# Altium footprint library Qorvo.PcbLib: 7 footprints
Each footprint in its own frame and in the unit in brackets; x right, y up, seen from the top. Pads: shape width x height; smd on the part's side, far side on the other; paste and mask are expansions set on the pad; w line width, h text height; cw(c..) or ccw(c..) is an arc to the next point about the centre after c.
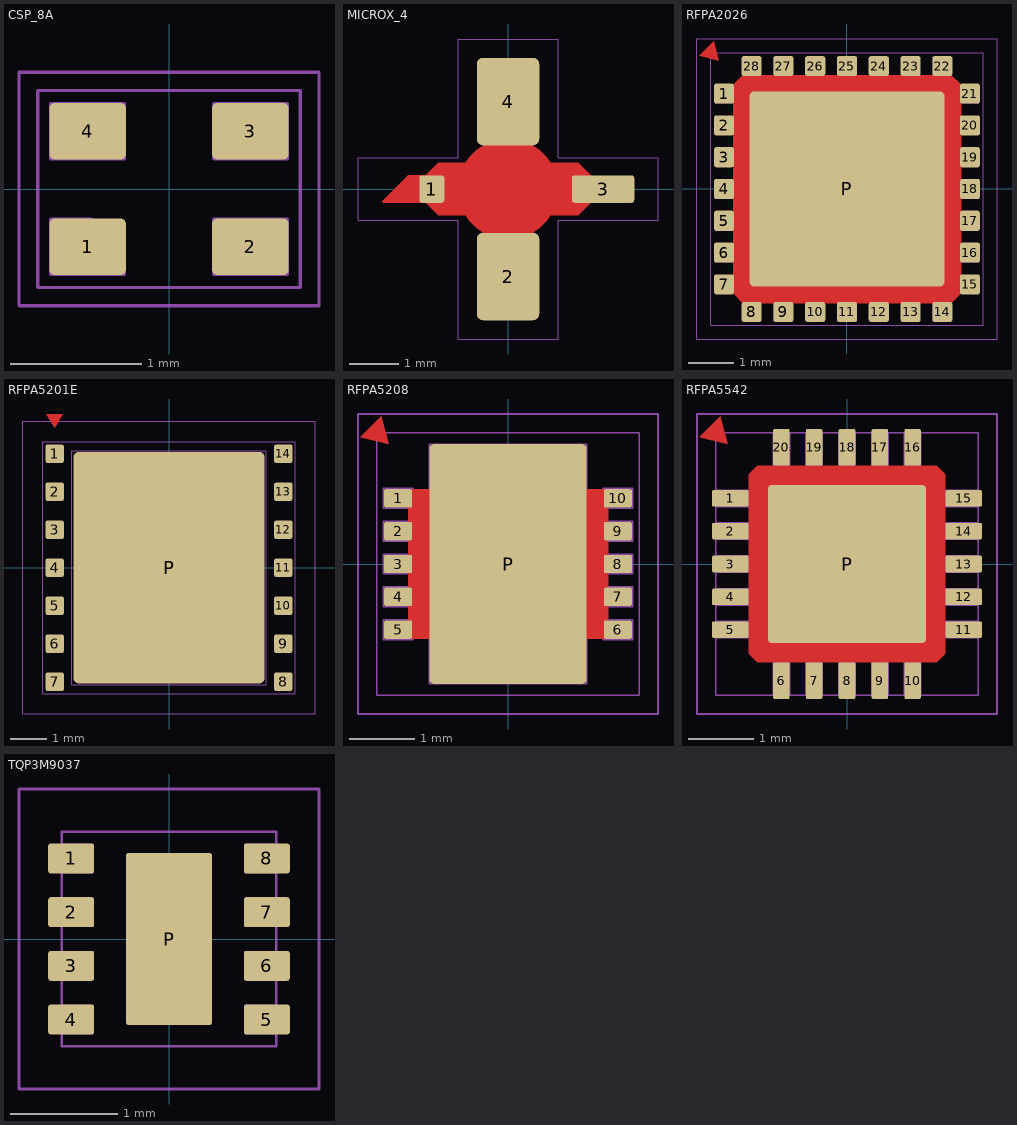
[diagram p0: the footprints below, top view; thin cyan lines are the x and y axes]

## CSP_8A [mil]
pads (4):
  rrect20% 23x17 smd mask+2: 1(-24.41,-17.32) 2(24.41,-17.32) 3(24.41,17.32) 4(-24.41,17.32)
Top Component Outline:
  lines w1: -45,-35 -45,35 45,35 45,-35 -45,-35
Top 3D Body (Mech16):
  lines w1: -39.37,-29.53 -39.37,29.53 39.37,29.53 39.37,-29.53 -39.37,-29.53 ; -35.43,-25.59 -35.43,-9.06 -23.23,-9.06 -13.39,-18.9 -13.39,-25.59 -35.43,-25.59 ; -35.43,9.06 -35.43,25.59 -13.39,25.59 -13.39,9.06 -35.43,9.06 ; 13.39,-25.59 13.39,-9.06 35.43,-9.06 35.43,-25.59 13.39,-25.59 ; 13.39,9.06 13.39,25.59 35.43,25.59 35.43,9.06 13.39,9.06
3D body: height 27.17, standoff 23.62, extent -39.37,-29.53 39.37,29.53
3D body: height 23.62, standoff 0, extent -39.37,-29.53 39.37,29.53
3D body: height 27.2, standoff 23, extent -34,-24 -24,-14

## MICROX_4 [mil]
pads (4):
  rrect20% 20x22 smd paste-2 mask+2: 1(-61,0)
  rrect20% 50x70 smd paste-100 mask+2: 2(0,-70) 4(0,70)
  rrect20% 50x22 smd paste-2 mask+2: 3(76,0)
Top Layer:
  pour cut-out: -56,21 -68,9 -68,-9 -56,-21 -30,-21 -30,21
  pour cut-out: 56,-21 68,-9 68,9 56,21 30,21 30,-21
  region: -65,11 -79,11 -79.24,11 -79.7,10.91 -80.14,10.73 -80.54,10.46 -80.71,10.29 -101,-10 -100,-11 -65,-11
  pour cut-out: 0,40 -3.94,40 -11.67,38.46 -18.95,35.45 -25.5,31.07 -31.07,25.5 -35.45,18.95 -38.46,11.67 -40,3.94 -40,0 -40,-3.94 -38.46,-11.67 -35.45,-18.95 -31.07,-25.5 -25.5,-31.07 -18.95,-35.45 -11.67,-38.46 -3.94,-40 0,-40 3.94,-40 11.67,-38.46 18.95,-35.45 25.5,-31.07 31.07,-25.5 35.45,-18.95 38.46,-11.67 40,-3.94 40,0 40,3.94 38.46,11.67 35.45,18.95 31.07,25.5 25.5,31.07 18.95,35.45 11.67,38.46 3.94,40
Top Paste:
  rectangle: -20,-100 20,-75
  rectangle: -20,-65 20,-40
  region: 20,65 -20,65 -20,40 20,40
  region: 20,100 -20,100 -20,75 20,75
Top Component Outline:
  lines w1: -120,-25 -120,25 -40,25 -40,120 40,120 40,25 120,25 120,-25 40,-25 40,-120 -40,-120 -40,-25 -120,-25
Top 3D Body (Mech16):
  circle w1: c0,0 r35
  lines w1: -100,-10 -80,10 -31,10 -31,-10 -100,-10 ; -20,-100 20,-100 20,-26 -20,-26 -20,-100 ; -20,26 20,26 20,100 -20,100 -20,26 ; 31,-10 100,-10 100,10 31,10 31,-10
3D body: height 56, standoff 1, extent -34.72,-34.93 35,34.93
3D body: height 5, standoff 0, extent 31,-10 100,10
3D body: height 5, standoff 0, extent -100,-10 -31,10
3D body: height 5, standoff 0, extent -20,-100 20,-26
3D body: height 5, standoff 0, extent -20,26 20,100

## RFPA2026 [mil] "RFPA2026"
pads (29):
  rrect20% 17x17.5 smd mask+2: 1(-106.58,82.68) 2(-106.58,55.12) 3(-106.58,27.56) 4(-106.58,0) 5(-106.58,-27.56) 6(-106.58,-55.12) 7(-106.58,-82.68) 15(106.58,-82.68) 16(106.58,-55.12) 17(106.58,-27.56) 18(106.58,0) 19(106.58,27.56) 20(106.58,55.12) 21(106.58,82.68)
  rrect20% 17.5x17 smd mask+2: 8(-82.68,-106.58) 9(-55.12,-106.58) 10(-27.56,-106.58) 11(0,-106.58) 12(27.56,-106.58) 13(55.12,-106.58) 14(82.68,-106.58) 22(82.68,106.58) 23(55.12,106.58) 24(27.56,106.58) 25(0,106.58) 26(-27.56,106.58) 27(-55.12,106.58) 28(-82.68,106.58)
  rrect5% 169.29x169.29 smd mask+2: P(0,0)
Top Layer:
  region: -111.06,111.11 -115.3,128.08 -128.03,115.35
  pour cut-out: -98.73,90.27 -90.27,98.73 90.55,98.73 99.02,90.27 99.02,-90.55 90.55,-99.01 -90.27,-99.01 -98.73,-90.55
Top Component Outline:
  lines w1: -130,-130 130,-130 130,130 -130,130 -130,-130
Top 3D Body (Mech16):
  lines w1: -118.11,-118.11 118.11,-118.11 118.11,118.11 -118.11,118.11 -118.11,-118.11 ; -114.15,-90.55 -99.02,-90.55 -99.02,-74.8 -114.15,-74.8 -114.15,-90.55 ; -114.15,-62.99 -114.15,-47.24 -99.02,-47.24 -99.02,-62.99 -114.15,-62.99 ; -114.15,-35.43 -99.02,-35.43 -99.02,-19.69 -114.15,-19.69 -114.15,-35.43 ; -114.15,-7.87 -114.15,7.87 -99.02,7.87 -99.02,-7.87 -114.15,-7.87 ; -114.15,19.69 -99.02,19.69 -99.02,35.43 -114.15,35.43 -114.15,19.69 ; -114.15,47.24 -114.15,62.99 -99.02,62.99 -99.02,47.24 -114.15,47.24 ; -114.15,74.8 -114.15,90.55 -99.02,90.55 -99.02,74.8 -114.15,74.8 ; -90.55,-114.15 -90.55,-99.02 -74.8,-99.02 -74.8,-114.15 -90.55,-114.15 ; -90.55,99.02 -90.55,114.15 -74.8,114.15 -74.8,99.02 -90.55,99.02 ; -84.65,-84.65 84.65,-84.65 84.65,84.65 -84.65,84.65 -84.65,-84.65 ; -62.99,-114.15 -62.99,-99.02 -47.24,-99.02 -47.24,-114.15 -62.99,-114.15 ; -62.99,99.02 -47.24,99.02 -47.24,114.15 -62.99,114.15 -62.99,99.02 ; -35.43,-114.15 -19.69,-114.15 -19.69,-99.02 -35.43,-99.02 -35.43,-114.15 ; -35.43,99.02 -35.43,114.15 -19.69,114.15 -19.69,99.02 -35.43,99.02 ; -7.87,-114.15 -7.87,-99.02 7.87,-99.02 7.87,-114.15 -7.87,-114.15 ; -7.87,99.02 7.87,99.02 7.87,114.15 -7.87,114.15 -7.87,99.02 ; 19.69,-114.15 35.43,-114.15 35.43,-99.02 19.69,-99.02 19.69,-114.15 ; 19.69,99.02 19.69,114.15 35.43,114.15 35.43,99.02 19.69,99.02 ; 47.24,-114.15 47.24,-99.02 62.99,-99.02 62.99,-114.15 47.24,-114.15 ; 47.24,99.02 62.99,99.02 62.99,114.15 47.24,114.15 47.24,99.02 ; 74.8,-114.15 90.55,-114.15 90.55,-99.02 74.8,-99.02 74.8,-114.15 ; 74.8,99.02 90.55,99.02 90.55,114.15 74.8,114.15 74.8,99.02 ; 99.02,-90.55 99.02,-74.8 114.15,-74.8 114.15,-90.55 99.02,-90.55 ; 99.02,-62.99 99.02,-47.24 114.15,-47.24 114.15,-62.99 99.02,-62.99 ; 99.02,-35.43 114.15,-35.43 114.15,-19.69 99.02,-19.69 99.02,-35.43 ; 99.02,-7.87 99.02,7.87 114.15,7.87 114.15,-7.87 99.02,-7.87 ; 99.02,19.69 114.15,19.69 114.15,35.43 99.02,35.43 99.02,19.69 ; 99.02,47.24 99.02,62.99 114.15,62.99 114.15,47.24 99.02,47.24 ; 99.02,74.8 114.15,74.8 114.15,90.55 99.02,90.55 99.02,74.8
3D body: height 46.26, standoff 0, extent -118.11,-118.11 118.11,118.11

## RFPA5201E [mil] "RFPA5201E"
pads (15):
  rrect20% 20x20 smd mask+2: 1(-125,124.61) 2(-125,83.07) 3(-125,41.54) 4(-125,0) 5(-125,-41.54) 6(-125,-83.07) 7(-125,-124.61) 8(125,-124.61) 9(125,-83.07) 10(125,-41.54) 11(125,0) 12(125,41.54) 13(125,83.07) 14(125,124.61)
  rrect5% 209x253 smd mask+2: P(0,0)
Top Layer:
  region: -125,153 -116,168 -134,168
Top Component Outline:
  lines w1: -160,-160 160,-160 160,160 -160,160 -160,-160
Top 3D Body (Mech16):
  lines w1: -137.8,-137.8 137.8,-137.8 137.8,137.8 -137.8,137.8 -137.8,-137.8 ; -133.86,-133.46 -133.86,-115.75 -116.14,-115.75 -116.14,-133.46 -133.86,-133.46 ; -133.86,-91.93 -116.14,-91.93 -116.14,-74.21 -133.86,-74.21 -133.86,-91.93 ; -133.86,-50.39 -133.86,-32.68 -116.14,-32.68 -116.14,-50.39 -133.86,-50.39 ; -133.86,-8.86 -116.14,-8.86 -116.14,8.86 -133.86,8.86 -133.86,-8.86 ; -133.86,32.68 -133.86,50.39 -116.14,50.39 -116.14,32.68 -133.86,32.68 ; -133.86,74.21 -116.14,74.21 -116.14,91.93 -133.86,91.93 -133.86,74.21 ; -133.86,115.75 -133.86,133.46 -116.14,133.46 -116.14,115.75 -133.86,115.75 ; -106.3,-127.95 106.3,-127.95 106.3,127.95 -106.3,127.95 -106.3,-127.95 ; 116.14,-133.46 133.86,-133.46 133.86,-115.75 116.14,-115.75 116.14,-133.46 ; 116.14,-91.93 116.14,-74.21 133.86,-74.21 133.86,-91.93 116.14,-91.93 ; 116.14,-50.39 133.86,-50.39 133.86,-32.68 116.14,-32.68 116.14,-50.39 ; 116.14,-8.86 116.14,8.86 133.86,8.86 133.86,-8.86 116.14,-8.86 ; 116.14,32.68 133.86,32.68 133.86,50.39 116.14,50.39 116.14,32.68 ; 116.14,74.21 116.14,91.93 133.86,91.93 133.86,74.21 116.14,74.21 ; 116.14,115.75 116.14,133.46 133.86,133.46 133.86,115.75 116.14,115.75
3D body: height 38.39, standoff 0, extent -137.8,-137.8 137.8,137.8

## RFPA5208 [mm] "RFPA5208"
pads (11):
  rrect20% 0.43x0.28 smd mask+0.051: 1(-1.675,1) 2(-1.675,0.5) 3(-1.675,0) 4(-1.675,-0.5) 5(-1.675,-1) 6(1.675,-1) 7(1.675,-0.5) 8(1.675,0) 9(1.675,0.5) 10(1.675,1)
  rrect5% 2.4x3.65 smd mask+0.051: P(0,0)
Top Layer:
  region: -1.821,1.822 -1.929,2.253 -2.252,1.93
  pour cut-out: -1.524,1.143 1.524,1.143 1.524,-1.143 -1.524,-1.143
Top Component Outline:
  lines w0.025: -2.286,-2.286 -2.286,2.286 2.286,2.286 2.286,-2.286 -2.286,-2.286
Top 3D Body (Mech16):
  lines w0.025: -2,-2 -2,2 2,2 2,-2 -2,-2 ; -1.9,-1.15 -1.9,-0.85 -1.45,-0.85 -1.45,-1.15 -1.9,-1.15 ; -1.9,-0.65 -1.45,-0.65 -1.45,-0.35 -1.9,-0.35 -1.9,-0.65 ; -1.9,-0.15 -1.45,-0.15 -1.45,0.15 -1.9,0.15 -1.9,-0.15 ; -1.9,0.35 -1.9,0.65 -1.45,0.65 -1.45,0.35 -1.9,0.35 ; -1.9,0.85 -1.45,0.85 -1.45,1.15 -1.9,1.15 -1.9,0.85 ; -1.2,-1.825 -1.2,1.825 1.2,1.825 1.2,-1.825 -1.2,-1.825 ; 1.45,-1.15 1.9,-1.15 1.9,-0.85 1.45,-0.85 1.45,-1.15 ; 1.45,-0.65 1.45,-0.35 1.9,-0.35 1.9,-0.65 1.45,-0.65 ; 1.45,-0.15 1.9,-0.15 1.9,0.15 1.45,0.15 1.45,-0.15 ; 1.45,0.35 1.9,0.35 1.9,0.65 1.45,0.65 1.45,0.35 ; 1.45,0.85 1.45,1.15 1.9,1.15 1.9,0.85 1.45,0.85
3D body: height 0.85, standoff 0, extent -2,-2 2,2

## RFPA5542 [mil] "RFPA5542"
pads (21):
  rrect20% 22x10 smd mask+2: 1(-70,39.37) 2(-70,19.69) 3(-70,0) 4(-70,-19.69) 5(-70,-39.37) 11(70,-39.37) 12(70,-19.69) 13(70,0) 14(70,19.69) 15(70,39.37)
  rrect20% 10x22 smd mask+2: 6(-39.37,-70) 7(-19.69,-70) 8(0,-70) 9(19.69,-70) 10(39.37,-70) 16(39.37,70) 17(19.69,70) 18(0,70) 19(-19.69,70) 20(-39.37,70)
  rrect5% 95x95 smd mask+2: P(0,0)
Top Layer:
  pour cut-out: -59.06,54 -54,59.06 54,59.06 59.05,54 59.05,-54 54,-59.05 -54,-59.05 -59.06,-54
  region: -71.69,71.74 -75.93,88.71 -88.66,75.98
Top Component Outline:
  lines w1: -90,-90 90,-90 90,90 -90,90 -90,-90
Top 3D Body (Mech16):
  lines w1: -78.74,-44.29 -59.06,-44.29 -59.06,-34.45 -78.74,-34.45 ; -78.74,-24.61 -59.06,-24.61 -59.06,-14.76 -78.74,-14.76 ; -78.74,-4.92 -59.06,-4.92 -59.06,4.92 -78.74,4.92 ; -78.74,14.76 -59.06,14.76 -59.06,24.61 -78.74,24.61 ; -78.74,34.45 -59.06,34.45 -59.06,44.29 -78.74,44.29 ; -44.29,-78.74 -44.29,-59.06 -34.45,-59.06 -34.45,-78.74 ; -44.29,78.74 -44.29,59.06 -34.45,59.06 -34.45,78.74 ; -24.61,-78.74 -24.61,-59.06 -14.76,-59.06 -14.76,-78.74 ; -24.61,78.74 -24.61,59.06 -14.76,59.06 -14.76,78.74 ; -4.92,-78.74 -4.92,-59.06 4.92,-59.06 4.92,-78.74 ; -4.92,78.74 -4.92,59.06 4.92,59.06 4.92,78.74 ; 14.76,-78.74 14.76,-59.06 24.61,-59.06 24.61,-78.74 ; 14.76,78.74 14.76,59.06 24.61,59.06 24.61,78.74 ; 34.45,-78.74 34.45,-59.06 44.29,-59.06 44.29,-78.74 ; 34.45,78.74 34.45,59.06 44.29,59.06 44.29,78.74 ; 78.74,-44.29 59.06,-44.29 59.06,-34.45 78.74,-34.45 ; 78.74,-24.61 59.06,-24.61 59.06,-14.76 78.74,-14.76 ; 78.74,-4.92 59.06,-4.92 59.06,4.92 78.74,4.92 ; 78.74,14.76 59.06,14.76 59.06,24.61 78.74,24.61 ; 78.74,34.45 59.06,34.45 59.06,44.29 78.74,44.29 ; -78.74,-78.74 78.74,-78.74 78.74,78.74 -78.74,78.74 -78.74,-78.74 ; -49.21,-49.21 49.21,-49.21 49.21,49.21 -49.21,49.21 -49.21,-49.21
3D body: height 33.46, standoff 0, extent -78.74,-78.74 78.74,78.74
3D body: height 10, standoff 0, extent -79,34.37 -69,44.37
3D body: height 10, standoff 0, extent -79,14.68 -69,24.68
3D body: height 10, standoff 0, extent -79,-5 -69,5
3D body: height 10, standoff 0, extent -79,-24.69 -69,-14.69
3D body: height 10, standoff 0, extent -79,-44.37 -69,-34.37
3D body: height 10, standoff 0, extent 34.37,-79 44.37,-69
3D body: height 10, standoff 0, extent 14.69,-79 24.69,-69
3D body: height 10, standoff 0, extent -5,-79 5,-69
3D body: height 10, standoff 0, extent -24.68,-79 -14.68,-69
3D body: height 10, standoff 0, extent -44.37,-79 -34.37,-69
3D body: height 10, standoff 0, extent 69,34.37 79,44.37
3D body: height 10, standoff 0, extent 69,14.69 79,24.69
3D body: height 10, standoff 0, extent 69,-5 79,5
3D body: height 10, standoff 0, extent 69,-24.68 79,-14.68
3D body: height 10, standoff 0, extent 69,-44.37 79,-34.37
3D body: height 10, standoff 0, extent -44.37,69 -34.37,79
3D body: height 10, standoff 0, extent -24.69,69 -14.69,79
3D body: height 10, standoff 0, extent -5,69 5,79
3D body: height 10, standoff 0, extent 14.68,69 24.68,79
3D body: height 10, standoff 0, extent 34.37,69 44.37,79

## TQP3M9037 [mm] "TQP3M9037"
pads (9):
  rrect20% 0.43x0.28 smd mask+0.038: 1(-0.911,0.75) 2(-0.911,0.25) 3(-0.911,-0.25) 4(-0.911,-0.75) 5(0.911,-0.75) 6(0.911,-0.25) 7(0.911,0.25) 8(0.911,0.75)
  rrect5% 0.8x1.6 smd mask+0.038: P(0,0)
Top Solder:
  region: -0.483,1.067 -0.305,1.346 -0.66,1.346
Top Component Outline:
  lines w0.025: -1.397,-1.397 -1.397,1.397 1.397,1.397 1.397,-1.397 -1.397,-1.397
Top 3D Body (Mech16):
  lines w0.025: -1.011,-0.875 -0.711,-0.875 -0.711,-0.625 -1.011,-0.625 ; -1.011,-0.375 -0.711,-0.375 -0.711,-0.125 -1.011,-0.125 ; -1.011,0.125 -0.711,0.125 -0.711,0.375 -1.011,0.375 ; -1.011,0.625 -0.711,0.625 -0.711,0.875 -1.011,0.875 ; 1.011,-0.875 0.711,-0.875 0.711,-0.625 1.011,-0.625 ; 1.011,-0.375 0.711,-0.375 0.711,-0.125 1.011,-0.125 ; 1.011,0.125 0.711,0.125 0.711,0.375 1.011,0.375 ; 1.011,0.625 0.711,0.625 0.711,0.875 1.011,0.875 ; -1,-1 -1,1 1,1 1,-1 -1,-1
3D body: height 0.85, standoff 0, extent -1,-1 1,1
3D body: height 0.25, standoff 0, extent -1.011,-0.375 -0.711,-0.125
3D body: height 0.25, standoff 0, extent -1.011,0.125 -0.711,0.375
3D body: height 0.25, standoff 0, extent -1.011,-0.875 -0.711,-0.625
3D body: height 0.25, standoff 0, extent -1.011,0.625 -0.711,0.875
3D body: height 0.25, standoff 0, extent 0.711,-0.875 1.011,-0.625
3D body: height 0.25, standoff 0, extent 0.711,0.625 1.011,0.875
3D body: height 0.25, standoff 0, extent 0.711,-0.375 1.011,-0.125
3D body: height 0.25, standoff 0, extent 0.711,0.125 1.011,0.375